# Altium footprint library OSTTC022162.PcbLib: 1 footprints
Each footprint in its own frame and in the unit in brackets; x right, y up, seen from the top. Pads: shape width x height; smd on the part's side, far side on the other; paste and mask are expansions set on the pad; w line width, h text height; cw(c..) or ccw(c..) is an arc to the next point about the centre after c.
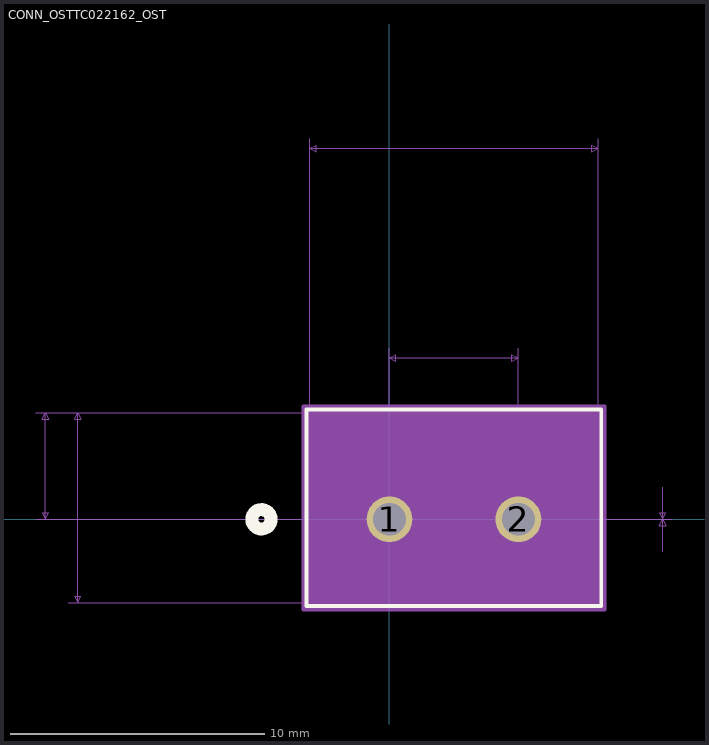
[diagram p0: the footprint, top view; thin cyan lines are the x and y axes]

## CONN_OSTTC022162_OST [mil]
pads (2):
  round 71 hole 51 mask+0: 1(0,0) 2(200,0)
Top Overlay:
  circle w20: c-198.5,0 r15
  lines w6: -128.5,-134.65 -128.5,170.35 328.5,170.35 328.5,-134.65 -128.5,-134.65
Bottom Overlay:
  circle w20: c-198.5,0 r15
Mechanical 7:
  lines w1: -548.5,0 100,0 ; -548.5,165.35 -123.5,165.35 ; -498.5,-129.65 -123.5,-129.65 ; -498.5,165.35 -123.5,165.35 ; -123.5,590.35 -123.5,165.35 ; 0,265.35 0,0 ; 200,0 200,265.35 ; 323.5,165.35 323.5,590.35 ; 423.5,-50 423.5,0 ; 423.5,50 423.5,0 ; -533.5,0 -528.5,10 -538.5,10 -533.5,0 ; -533.5,0 -533.5,165.35 ; -533.5,165.35 -528.5,155.35 -538.5,155.35 -533.5,165.35 ; -483.5,-129.65 -478.5,-119.65 -488.5,-119.65 -483.5,-129.65 ; -483.5,-129.65 -483.5,165.35 ; -483.5,165.35 -478.5,155.35 -488.5,155.35 -483.5,165.35 ; -123.5,575.35 -113.5,570.35 -113.5,580.35 -123.5,575.35 ; -123.5,575.35 323.5,575.35 ; 0,0 438.5,0 0,0 ; 0,250.35 10,245.35 10,255.35 0,250.35 ; 0,250.35 200,250.35 ; 200,250.35 190,245.35 190,255.35 200,250.35 ; 323.5,575.35 313.5,570.35 313.5,580.35 323.5,575.35 ; 423.5,0 428.5,-10 418.5,-10 423.5,0 ; 423.5,0 428.5,10 418.5,10 423.5,0
  text "0.295in/7.493mm" at -691,5.35 h25
  text "0.165in/4.2mm" at -716,70.18 h25
  text "0in/0mm" at 443.5,-12.5 h25
  text "0.447in/11.354mm" at 0,595.35 h25
  text "0.2in/5.08mm" at -125,270.35 h25
  text "Alt Padstyle 2: OX90Y60D30P" at -237.5,-814.65 h50
  text "Alt Padstyle 1: OX60Y90D30P" at -237.5,-739.65 h50
  text "Right Mtg Padstyle: EX60Y60D30P" at -287.5,-664.65 h50
  text "Left Mtg Padstyle: EX60Y60D30P" at -275,-589.65 h50
  text "3rd Mtg Padstyle: EX70Y70D70P" at -262.5,-514.65 h50
  text "2nd Mtg Padstyle: EX70Y70D70P" at -262.5,-439.65 h50
  text "1st Mtg Padstyle: RX110Y80D50P" at -275,-364.65 h50
  text "Default Padstyle: EX71Y71D51P" at -262.5,-289.65 h50
Mechanical 13:
  circle w20: c0,75 r15
  lines w1: -123.5,-129.65 -123.5,165.35 323.5,165.35 323.5,-129.65 -123.5,-129.65
Mechanical 15:
  region: 333.5,175.35 -133.5,175.35 -133.5,-139.65 333.5,-139.65
  lines w6: -133.5,-139.65 333.5,-139.65 333.5,175.35 -133.5,175.35 -133.5,-139.65
3D body: height 10, standoff 0, extent 0,0 10,10